# Altium schematic symbol library IC-Chipanalog.SchLib: 1 symbol
Pins are listed as number, name and electrical type; pins without a type are passive.

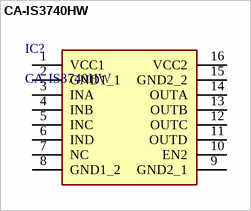
[diagram p0: symbol CA-IS3740HW]

## CA-IS3740HW
designator IC?
数字隔离器芯片; Manufacturer_Name: Chipanalog(川土微); Manufacturer_Name_1: Texas Instruments; Manufacturer_Part_Number_1: ISO7740FDW; Manufacturer_Part_Number: CA-IS3740HW; LCSC: C528653
footprint SOIC-16-300MIL (CA-IS3740HW)
pins: 1 VCC1, 2 GND1_1, 3 INA, 4 INB, 5 INC, 6 IND, 7 NC, 8 GND1_2, 9 GND2_1, 10 EN2, 11 OUTD, 12 OUTC, 13 OUTB, 14 OUTA, 15 GND2_2, 16 VCC2